# EAGLE library part HT82K629A-40DIPLF (library HT82K629A-40DIPLF)
HOLTEK - HT82K629A-40DIPLF - IC, USB/PS2 CONT, WIN 2000 KEYBOARD Source: Datasheet <http://www.farnell.com/datasheets/79209.pdf>
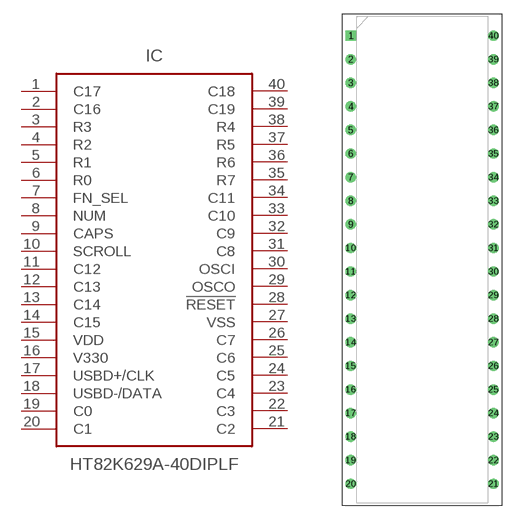
[diagram p0: symbol with the pads of DIP1537W41P254L5220H394Q40N; footprint DIP1537W41P254L5220H394Q40N]

Designator prefix IC

## HT82K629A-40DIPLF (Description: HOLTEK - HT82K629A-40DIPLF - IC, USB/PS2 CONT, WIN 2000 KEYBOARD; Height: 3.937mm; Manufacturer_Name: Holtek; Manufacturer_Part_Number: HT82K629A-40DIPLF)  [DIP1537W41P254L5220H394Q40N]
1  C17  in
2  C16  in
3  R3  in
4  R2  in
5  R1  in
6  R0  in
7  FN_SEL  in
8  NUM  in
9  CAPS  in
10  SCROLL  in
11  C12  in
12  C13  in
13  C14  in
14  C15  in
15  VDD  in
16  V330  in
17  USBD+/CLK  in
18  USBD-/DATA  in
19  C0  in
20  C1  in
21  C2  in
22  C3  in
23  C4  in
24  C5  in
25  C6  in
26  C7  in
27  VSS  in
28  !RESET  in
29  OSCO  in
30  OSCI  in
31  C8  in
32  C9  in
33  C10  in
34  C11  in
35  R7  in
36  R6  in
37  R5  in
38  R4  in
39  C19  in
40  C18  in

## Footprint DIP1537W41P254L5220H394Q40N (pad centres in mm)
40-pin DIP (600mil)
drill 0.606 pad 1.006 square: 1 -7.684,24.13
drill 0.606 pad 1.006: 2 -7.684,21.59; 3 -7.684,19.05; 4 -7.684,16.51; 5 -7.684,13.97; 6 -7.684,11.43; 7 -7.684,8.89; 8 -7.684,6.35; 9 -7.684,3.81; 10 -7.684,1.27; 11 -7.684,-1.27; 12 -7.684,-3.81; 13 -7.684,-6.35; 14 -7.684,-8.89; 15 -7.684,-11.43; 16 -7.684,-13.97; 17 -7.684,-16.51; 18 -7.684,-19.05; 19 -7.684,-21.59; 20 -7.684,-24.13; 21 7.684,-24.13; 22 7.684,-21.59; 23 7.684,-19.05; 24 7.684,-16.51; 25 7.684,-13.97; 26 7.684,-11.43; 27 7.684,-8.89; 28 7.684,-6.35; 29 7.684,-3.81; 30 7.684,-1.27; 31 7.684,1.27; 32 7.684,3.81; 33 7.684,6.35; 34 7.684,8.89; 35 7.684,11.43; 36 7.684,13.97; 37 7.684,16.51; 38 7.684,19.05; 39 7.684,21.59; 40 7.684,24.13